# Altium schematic symbol library Transformers.SchLib: 1 symbol
Pins are listed as number, name and electrical type; pins without a type are passive.

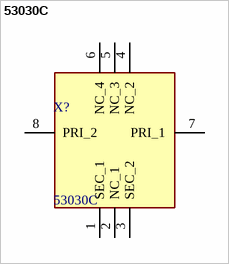
[diagram p0: symbol 53030C]

## 53030C
designator X?
Current Transformers 10A Curr Sense Txfr 1:30 SM; Manufacturer_Name: Murata Electronics; Geometry.Height: 5.4mm; Made By: Tejas Gulur; Mouser Part Number: 580-53030C; Mouser Price/Stock: https://www.mouser.com/Search/Refine.aspx?Keyword=580-53030C; Manufacturer_Part_Number: 53030C; Datasheet Link: https://componentsearchengine.com/Datasheets/1/53030C.pdf; Supplier 1: Mouser; Supplier Part Number 1: 580-53030C
footprint 53030C
pins: 1 SEC_1, 2 NC_1, 3 SEC_2, 4 NC_2, 5 NC_3, 6 NC_4, 7 PRI_1, 8 PRI_2